# Altium integrated library AS01508MO-SC11-R.IntLib: 1 symbol
Pins are listed as number, name and electrical type; pins without a type are passive.

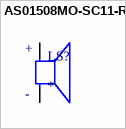
[diagram p0: symbol AS01508MO-SC11-R]

## AS01508MO-SC11-R
designator LS?
MP: AS01508MO-SC11-R; Package: None; Price: None; Value: *; Availability: Unavailable
footprint SPKR_AS01508MO-SC11-R
pins: N, P
text: +; -